# Altium schematic symbol library FPGA.SchLib: 1 symbol
Pins are listed as number, name and electrical type; pins without a type are passive.

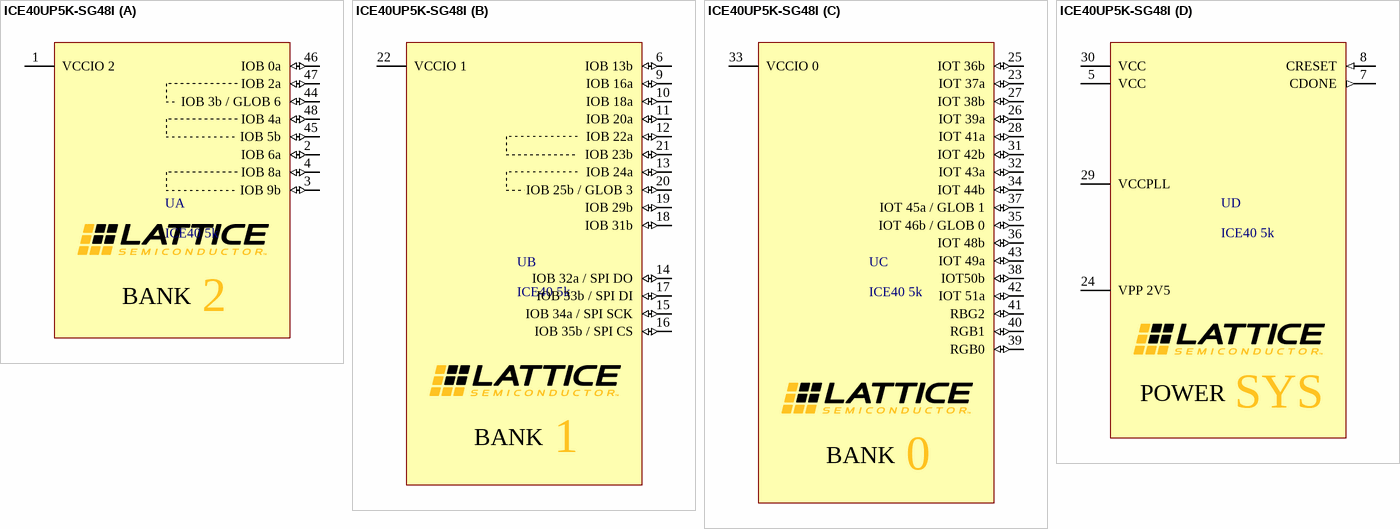
[diagram p0: symbol ICE40UP5K-SG48I]

## ICE40UP5K-SG48I
designator U, comment ICE40 5k
Supplier Part Number 1: 220-2212-2-ND; Supplier 1: Digi-Key
footprint ICE40UP5K-SG48I (QFN, 48-Leads, Body 7.00x7.00mm, Pitch 0.50mm, Thermal Pad 5.40x5.40mm, IPC Medium Density)
part A pins: 1 VCCIO 2 (power), 2 IOB 6a (io), 3 IOB 9b (io), 4 IOB 8a (io), 44 IOB 3b / GLOB 6 (io), 45 IOB 5b (io), 46 IOB 0a (io), 47 IOB 2a (io), 48 IOB 4a (io)
part B pins: 6 IOB 13b (io), 9 IOB 16a (io), 10 IOB 18a (io), 11 IOB 20a (io), 12 IOB 22a (io), 13 IOB 24a (io), 14 IOB 32a / SPI DO (io), 15 IOB 34a / SPI SCK (io), 16 IOB 35b / SPI CS (io), 17 IOB 33b / SPI DI (io), 18 IOB 31b (io), 19 IOB 29b (io), 20 IOB 25b / GLOB 3 (io), 21 IOB 23b (io), 22 VCCIO 1 (power)
part C pins: 23 IOT 37a (io), 25 IOT 36b (io), 26 IOT 39a (io), 27 IOT 38b (io), 28 IOT 41a (io), 31 IOT 42b (io), 32 IOT 43a (io), 33 VCCIO 0 (power), 34 IOT 44b (io), 35 IOT 46b / GLOB 0 (io), 36 IOT 48b (io), 37 IOT 45a / GLOB 1 (io), 38 IOT50b (io), 39 RGB0 (io), 40 RGB1 (io), 41 RBG2 (io), 42 IOT 51a (io), 43 IOT 49a (io)
part D pins: 5 VCC (power), 7 CDONE (out), 8 CRESET (in), 24 VPP 2V5 (power), 29 VCCPLL (power), 30 VCC (power)
part A text: BANK
part B text: BANK
part C text: BANK; 0
part D text: POWER; SYS